# EAGLE library part B6B-PH-K-S(LF)(SN) (library con-jst_ph)
Check availability <https://pricing.snapeda.com/parts/B6B-PH-K-S%28LF%29%28SN%29/JST%20Sales/view-part?ref=eda>
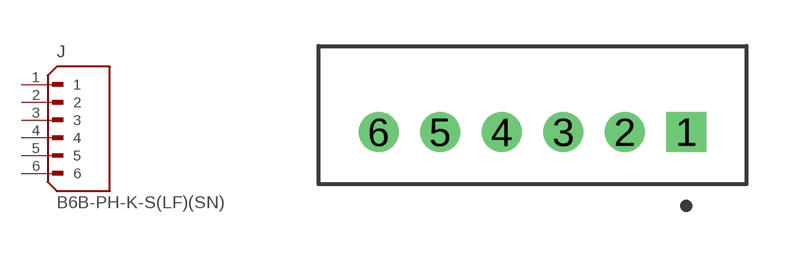
[diagram p2: symbol with the pads of JST_B6B-PH-K-S(LF)(SN); footprint JST_B6B-PH-K-S(LF)(SN)]

Designator prefix J

## B6B-PH-K-S(LF)(SN) (AVAILABILITY: In Stock; CHECK_PRICES: https://www.snapeda.com/parts/B6B-PH-K-S(LF)(SN)/JST+Sales+America+Inc./view-part/?ref=eda; DESCRIPTION: Connector Header Through Hole 6 position 0.079 (2.00mm); MF: JST Sales; MP: B6B-PH-K-S(LF)(SN); PACKAGE: None; PRICE: None; SNAPEDA_LINK: https://www.snapeda.com/parts/B6B-PH-K-S(LF)(SN)/JST+Sales+America+Inc./view-part/?ref=snap)  [JST_B6B-PH-K-S(LF)(SN)]
1  1  pas
2  2  pas
3  3  pas
4  4  pas
5  5  pas
6  6  pas

## Footprint JST_B6B-PH-K-S(LF)(SN) (pad centres in mm)
drill 0.8 square: 1 5,-0.55
drill 0.8: 2 3,-0.55; 3 1,-0.55; 4 -1,-0.55; 5 -3,-0.55; 6 -5,-0.55